# Altium schematic symbol library SCH - MCU - RENESAS - RENESAS R7FS1287XXXXXXNG 32QFN.SchLib: 1 symbol
Pins are listed as number, name and electrical type; pins without a type are passive.

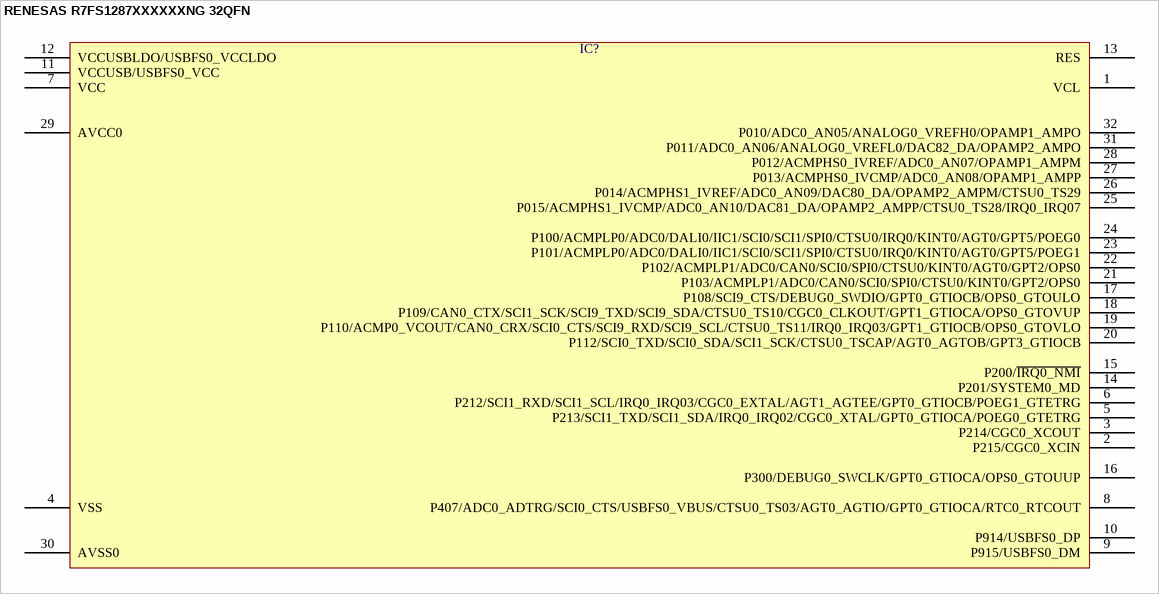
[diagram p0: symbol RENESAS R7FS1287XXXXXXNG 32QFN]

## RENESAS R7FS1287XXXXXXNG 32QFN
designator IC?  (value not drawn)
pins: 1 VCL, 2 P215/CGC0_XCIN, 3 P214/CGC0_XCOUT, 4 VSS, 5 P213/SCI1_TXD/SCI1_SDA/IRQ0_IRQ02/CGC0_XTAL/GPT0_GTIOCA/POEG0_GTETRG, 6 P212/SCI1_RXD/SCI1_SCL/IRQ0_IRQ03/CGC0_EXTAL/AGT1_AGTEE/GPT0_GTIOCB/POEG1_GTETRG, 7 VCC, 8 P407/ADC0_ADTRG/SCI0_CTS/USBFS0_VBUS/CTSU0_TS03/AGT0_AGTIO/GPT0_GTIOCA/RTC0_RTCOUT, 9 P915/USBFS0_DM, 10 P914/USBFS0_DP, 11 VCCUSB/USBFS0_VCC, 12 VCCUSBLDO/USBFS0_VCCLDO, 13 RES, 14 P201/SYSTEM0_MD, 15 P200/~{IRQ0_NMI}, 16 P300/DEBUG0_SWCLK/GPT0_GTIOCA/OPS0_GTOUUP, 17 P108/SCI9_CTS/DEBUG0_SWDIO/GPT0_GTIOCB/OPS0_GTOULO, 18 P109/CAN0_CTX/SCI1_SCK/SCI9_TXD/SCI9_SDA/CTSU0_TS10/CGC0_CLKOUT/GPT1_GTIOCA/OPS0_GTOVUP, 19 P110/ACMP0_VCOUT/CAN0_CRX/SCI0_CTS/SCI9_RXD/SCI9_SCL/CTSU0_TS11/IRQ0_IRQ03/GPT1_GTIOCB/OPS0_GTOVLO, 20 P112/SCI0_TXD/SCI0_SDA/SCI1_SCK/CTSU0_TSCAP/AGT0_AGTOB/GPT3_GTIOCB, 21 P103/ACMPLP1/ADC0/CAN0/SCI0/SPI0/CTSU0/KINT0/GPT2/OPS0, 22 P102/ACMPLP1/ADC0/CAN0/SCI0/SPI0/CTSU0/KINT0/AGT0/GPT2/OPS0, 23 P101/ACMPLP0/ADC0/DALI0/IIC1/SCI0/SCI1/SPI0/CTSU0/IRQ0/KINT0/AGT0/GPT5/POEG1, 24 P100/ACMPLP0/ADC0/DALI0/IIC1/SCI0/SCI1/SPI0/CTSU0/IRQ0/KINT0/AGT0/GPT5/POEG0, 25 P015/ACMPHS1_IVCMP/ADC0_AN10/DAC81_DA/OPAMP2_AMPP/CTSU0_TS28/IRQ0_IRQ07, 26 P014/ACMPHS1_IVREF/ADC0_AN09/DAC80_DA/OPAMP2_AMPM/CTSU0_TS29, 27 P013/ACMPHS0_IVCMP/ADC0_AN08/OPAMP1_AMPP, 28 P012/ACMPHS0_IVREF/ADC0_AN07/OPAMP1_AMPM, 29 AVCC0, 30 AVSS0, 31 P011/ADC0_AN06/ANALOG0_VREFL0/DAC82_DA/OPAMP2_AMPO, 32 P010/ADC0_AN05/ANALOG0_VREFH0/OPAMP1_AMPO